# Altium footprint library SOT-89.PcbLib: 1 footprints
Each footprint in its own frame and in the unit in brackets; x right, y up, seen from the top. Pads: shape width x height; smd on the part's side, far side on the other; paste and mask are expansions set on the pad; w line width, h text height; cw(c..) or ccw(c..) is an arc to the next point about the centre after c.
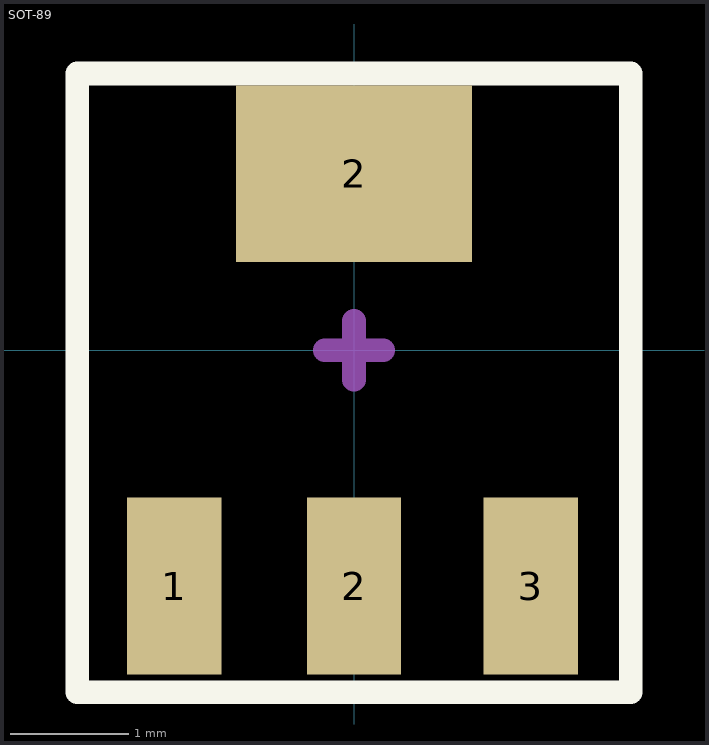
[diagram p0: the footprint, top view; thin cyan lines are the x and y axes]

## SOT-89 [mm]
height 1.1
pads (4):
  rect 0.8x1.5 smd: 1(-1.525,-2) 2(0,-2) 3(1.5,-2)
  rect 2x1.5 smd: 2(0,1.5)
Top Overlay:
  lines w0.2: -2.35,-2.9 2.35,-2.9 2.35,2.35 -2.35,2.35 -2.35,-2.9
Top Assembly:
  lines w0.1: -2.35,-2.9 2.35,-2.9 2.35,2.35 -2.35,2.35 -2.35,-2.9
  lines w0.2: -0.25,0 0.25,0 ; 0,-0.25 0,0.25
  text "'.Designator'" at 0,0 h0.7
3D body "User Library-NXP_SOT-89A_SOT1759-1.STEP": height 1.5, standoff 0, extent -2.25,-2.295 2.25,1.855